# EAGLE library part GM862 (library SparkFun)
GM862 Cellular Module with GPS Proven layout and schematic for GM862 cellular module with SiRF III GPS. Spark Fun Electronics SKU : CEL-07917
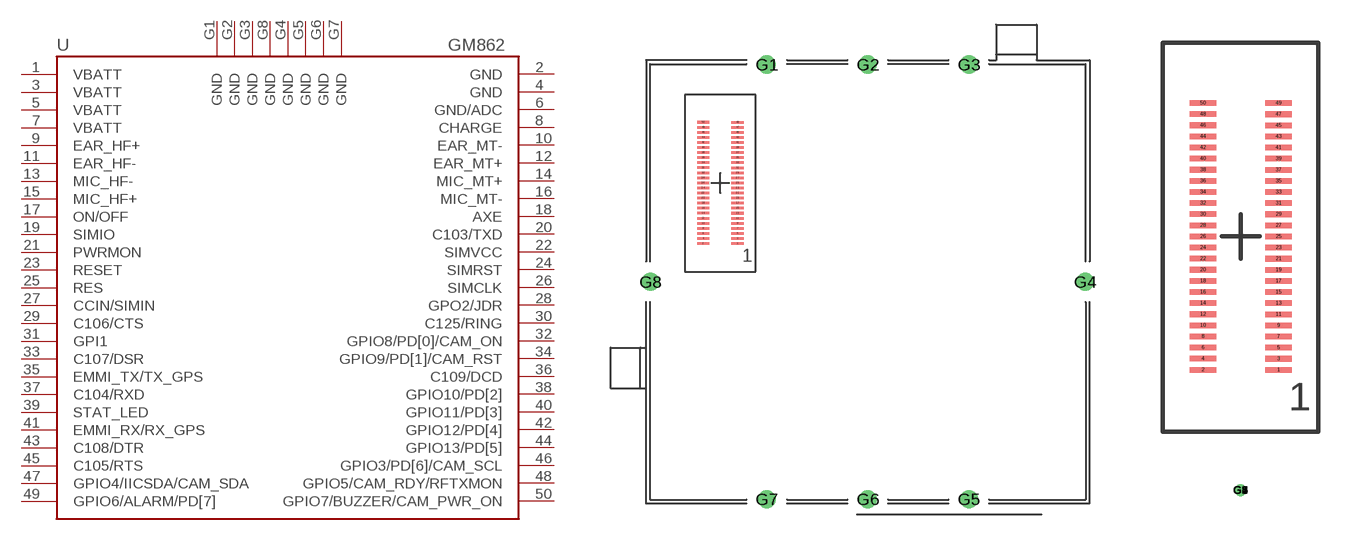
[diagram p76: symbol with the pads of GM862; footprints GM862, GM862_CONNECTOR]

Designator prefix -

## GM862GND  [GM862]
1  VBATT  pwr
2  GND  pwr
3  VBATT  pwr
4  GND  pwr
5  VBATT  pwr
6  GND/ADC  pwr
7  VBATT  pwr
8  CHARGE  in
9  EAR_HF+  out
10  EAR_MT-  out
11  EAR_HF-  out
12  EAR_MT+  out
13  MIC_HF-  in
14  MIC_MT+  in
15  MIC_HF+  in
16  MIC_MT-  in
17  ON/OFF  in
18  AXE  in
19  SIMIO
20  C103/TXD  in
21  PWRMON  out
22  SIMVCC  pwr
23  RESET  in
24  SIMRST  out
25  RES
26  SIMCLK  out
27  CCIN/SIMIN
28  GPO2/JDR  out
29  C106/CTS
30  C125/RING  out
31  GPI1  in
32  GPIO8/PD[0]/CAM_ON
33  C107/DSR  out
34  GPIO9/PD[1]/CAM_RST
35  EMMI_TX/TX_GPS  out
36  C109/DCD  out
37  C104/RXD  out
38  GPIO10/PD[2]
39  STAT_LED  out
40  GPIO11/PD[3]
41  EMMI_RX/RX_GPS  in
42  GPIO12/PD[4]
43  C108/DTR  in
44  GPIO13/PD[5]
45  C105/RTS  in
46  GPIO3/PD[6]/CAM_SCL
47  GPIO4/IICSDA/CAM_SDA
48  GPIO5/CAM_RDY/RFTXMON
49  GPIO6/ALARM/PD[7]
50  GPIO7/BUZZER/CAM_PWR_ON
G1  GND  pwr
G2  GND  pwr
G3  GND  pwr
G4  GND  pwr
G5  GND  pwr
G6  GND  pwr
G7  GND  pwr
G8  GND  pwr

## GM862GM862_CONNECTOR  [GM862_CONNECTOR]
Pads as for GM862

## Footprint GM862 (pad centres in mm)
smd 1.2 x 0.25: 1 -12.898,3.791; 2 -16.298,3.794; 3 -12.898,4.291; 4 -16.298,4.294; 5 -12.898,4.791; 6 -16.298,4.794; 7 -12.898,5.291; 8 -16.298,5.294; 9 -12.898,5.791; 10 -16.298,5.794; 11 -12.899,6.29; 12 -16.298,6.294; 13 -12.898,6.791; 14 -16.298,6.794; 15 -12.898,7.291; 16 -16.298,7.294; 17 -12.898,7.791; 18 -16.298,7.794; 19 -12.898,8.291; 20 -16.298,8.294; 21 -12.898,8.791; 22 -16.298,8.794; 23 -12.898,9.291; 24 -16.298,9.294; 25 -12.898,9.791; 26 -16.298,9.794; 27 -12.898,10.291; 28 -16.298,10.294; 29 -12.898,10.791; 30 -16.298,10.794; 31 -12.898,11.291; 32 -16.298,11.294; 33 -12.898,11.791; 34 -16.298,11.794; 35 -12.898,12.291; 36 -16.298,12.294; 37 -12.898,12.791; 38 -16.298,12.794; 39 -12.898,13.291; 40 -16.298,13.294; 41 -12.898,13.791; 42 -16.298,13.794; 43 -12.898,14.291; 44 -16.298,14.294; 45 -12.898,14.791; 46 -16.298,14.794; 47 -12.898,15.291; 48 -16.298,15.294; 49 -12.898,15.791; 50 -16.298,15.794
drill 1.2 round: G1 -10,21.5; G2 0,21.5; G3 10,21.5; G4 21.5,0; G5 10,-21.5; G6 0,-21.5; G7 -10,-21.5; G8 -21.5,0

## Footprint GM862_CONNECTOR (pad centres in mm)
smd 1.2 x 0.25: 1 1.707,-6.016; 2 -1.693,-6.013; 3 1.707,-5.516; 4 -1.693,-5.513; 5 1.707,-5.016; 6 -1.693,-5.013; 7 1.707,-4.516; 8 -1.693,-4.513; 9 1.707,-4.016; 10 -1.693,-4.013; 11 1.706,-3.517; 12 -1.693,-3.513; 13 1.707,-3.016; 14 -1.693,-3.013; 15 1.707,-2.516; 16 -1.693,-2.513; 17 1.707,-2.016; 18 -1.693,-2.013; 19 1.707,-1.516; 20 -1.693,-1.513; 21 1.707,-1.016; 22 -1.693,-1.013; 23 1.707,-0.516; 24 -1.693,-0.513; 25 1.707,-0.016; 26 -1.693,-0.013; 27 1.707,0.484; 28 -1.693,0.487; 29 1.707,0.984; 30 -1.693,0.987; 31 1.707,1.484; 32 -1.693,1.487; 33 1.707,1.984; 34 -1.693,1.987; 35 1.707,2.484; 36 -1.693,2.487; 37 1.707,2.984; 38 -1.693,2.987; 39 1.707,3.484; 40 -1.693,3.487; 41 1.707,3.984; 42 -1.693,3.987; 43 1.707,4.484; 44 -1.693,4.487; 45 1.707,4.984; 46 -1.693,4.987; 47 1.707,5.484; 48 -1.693,5.487; 49 1.707,5.984; 50 -1.693,5.987
drill 0.025 pad 0.025 round: G1 0,-11.43; G2 0,-11.43; G3 0,-11.43; G4 0,-11.43; G5 0,-11.43; G6 0,-11.43; G7 0,-11.43; G8 0,-11.43